# Altium footprint library PRM123.PcbLib: 1 footprints
Each footprint in its own frame and in the unit in brackets; x right, y up, seen from the top. Pads: shape width x height; smd on the part's side, far side on the other; paste and mask are expansions set on the pad; w line width, h text height; cw(c..) or ccw(c..) is an arc to the next point about the centre after c.
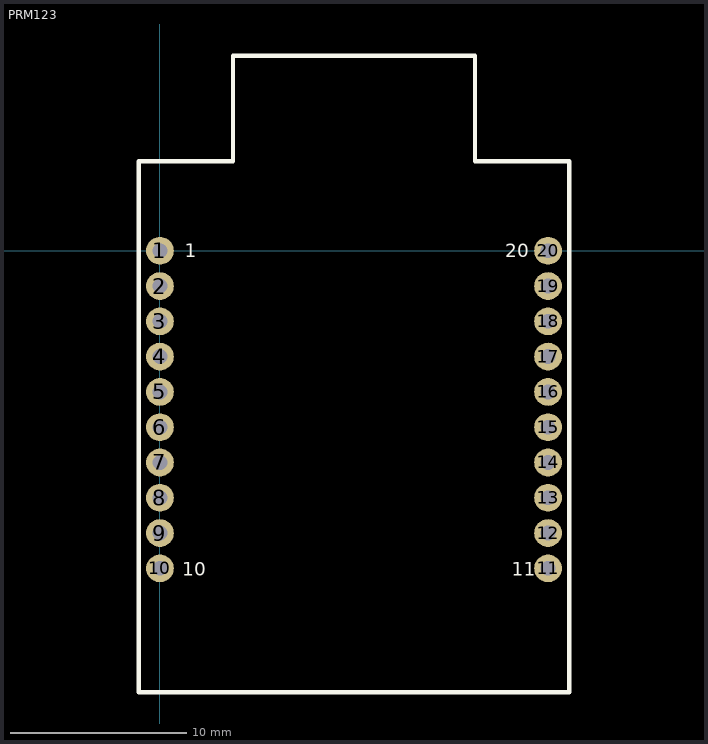
[diagram p0: the footprint, top view; thin cyan lines are the x and y axes]

## PRM123 [mil]
pads (20):
  round 62 hole 33: 1(0,0) 2(0,-78.74) 3(0,-157.48) 4(0,-236.22) 5(0,-314.96) 6(0,-393.7) 7(0,-472.44) 8(0,-551.18) 9(0,-629.92) 10(0,-708.66) 11(866,-708.66) 12(866,-629.92) 13(866,-551.18) 14(866,-472.44) 15(866,-393.7) 16(866,-314.96) 17(866,-236.22) 18(866,-157.48) 19(866,-78.74) 20(866,0)
Top Overlay:
  lines w10: -47,-985 -47,200 163,200 163,435 703,435 703,200 913,200 913,-985 -47,-985
  text "20" at 770,-15 h30
  text "11" at 785,-725 h30
  text "10" at 50,-725 h30
  text "1" at 55,-15 h30
3D body: height 226, standoff -180, extent -45,-987.49 915,432.51